# Altium footprint library 底盘.PcbLib: 38 footprints (part 2 of 3)
Each footprint in its own frame and in the unit in brackets; x right, y up, seen from the top. Pads: shape width x height; smd on the part's side, far side on the other; paste and mask are expansions set on the pad; w line width, h text height; cw(c..) or ccw(c..) is an arc to the next point about the centre after c.
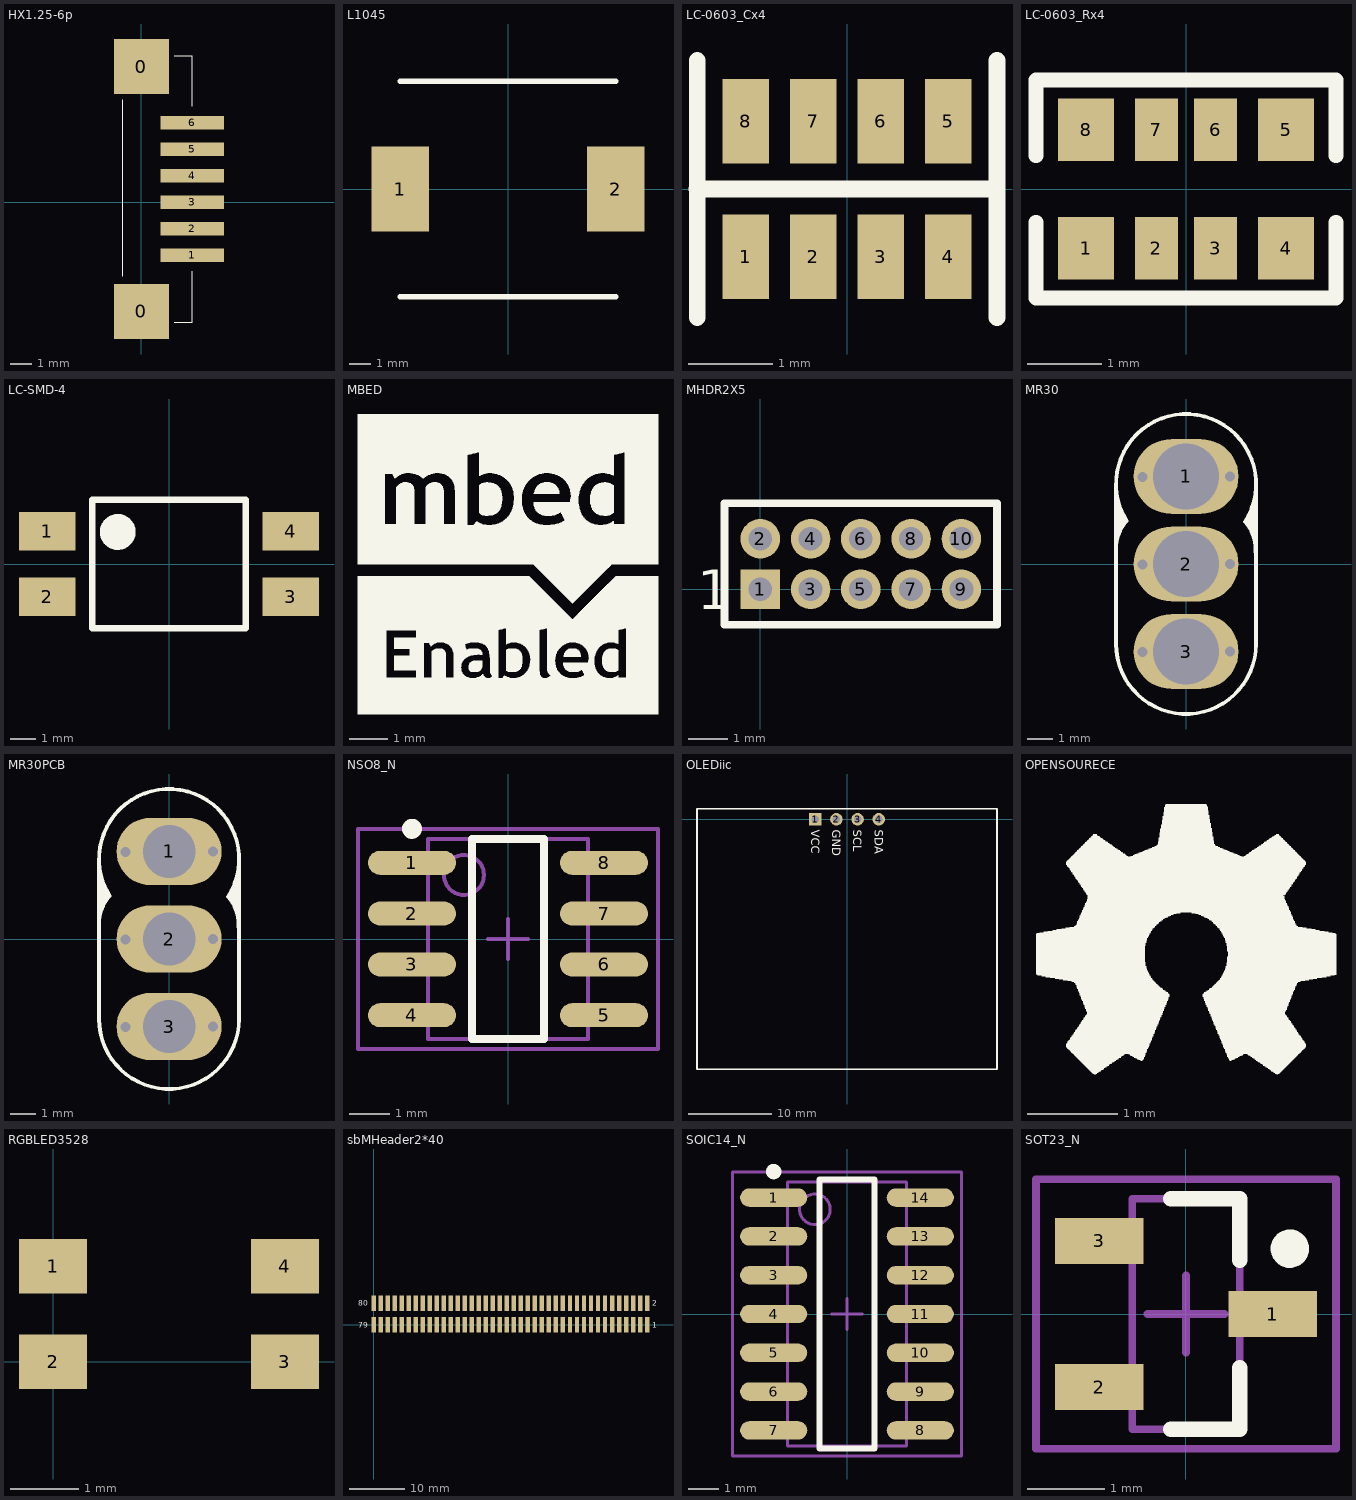
[diagram p1: the footprints below, top view; thin cyan lines are the x and y axes]

## HX1.25-6p [mm]
height 1.3
pads (8):
  rect 2.6x2.6 smd: 0(0.013,-5.15) 0(0.013,6.4)
  rect 3x0.65 smd: 1(2.413,-2.5) 2(2.413,-1.25) 3(2.413,0) 4(2.413,1.25) 5(2.413,2.5) 6(2.413,3.75)
Top Overlay:
  lines w0.05: -0.889,4.826 -0.887,-3.5 ; 1.563,-5.65 2.413,-5.65 2.413,-3.25 ; 1.563,6.92 2.413,6.92 2.413,4.52

## L1045 [mm]
height 1.3
pads (2):
  rect 2.7x4 smd: 1(-5.1,0) 2(5.1,0)
Top Overlay:
  lines w0.254: -5.1,-5.1 5.1,-5.1 ; -5.1,5.1 5.1,5.1

## LC-0603_Cx4 [mm]
pads (8):
  rect 0.55x1 smd mask+0.051: 1(-1.2,-0.8) 2(-0.4,-0.8) 3(0.4,-0.8) 4(1.2,-0.8) 5(1.2,0.8) 6(0.4,0.8) 7(-0.4,0.8) 8(-1.2,0.8)
Top Overlay:
  lines w0.2: -1.778,0 1.764,0 ; -1.775,-1.524 -1.775,-1.135 -1.775,-0.4 -1.775,1.524 ; 1.775,-1.524 1.775,-1.135 1.775,-0.4 1.775,1.135 1.775,1.524

## LC-0603_Rx4 [mm]
pads (8):
  rect 0.75x0.84 smd mask+0.051: 1(-1.35,-0.8) 4(1.35,-0.8) 5(1.35,0.8) 8(-1.35,0.8)
  rect 0.58x0.84 smd mask+0.051: 2(-0.4,-0.8) 3(0.4,-0.8) 6(0.4,0.8) 7(-0.4,0.8)
Top Overlay:
  lines w0.2: -2.025,-0.45 -2.025,-1.47 2.025,-1.47 2.025,-0.45 ; -2.025,0.45 -2.025,1.47 2.025,1.47 2.025,0.45

## LC-SMD-4 [mm]
pads (4):
  rect 2.2x1.5 smd: 1(-4.75,1.27) 2(-4.75,-1.27) 3(4.75,-1.27) 4(4.75,1.27)
Top Overlay:
  circle w0.7: c-2,1.25 r0.35
  lines w0.254: -3,-2.5 -3,2.5 3,2.5 3,-2.5 -3,-2.5

## MBED [mm]
Top Overlay:
  drawing of 3679 lines, arcs and shapes, not listed

## MHDR2X5 [mm] "Connector; Header; 5x2 Position"
height 1.3
pads (10):
  rect 1x1 hole 0.6: 1(0,0)
  round 1 hole 0.6: 2(0,1.27) 3(1.27,0) 4(1.27,1.27) 5(2.54,0) 6(2.54,1.27) 7(3.81,0) 8(3.81,1.27) 9(5.08,0) 10(5.08,1.27)
Top Overlay:
  lines w0.2: -0.9,-0.9 -0.9,2.17 5.98,2.17 5.98,-0.9 -0.9,-0.9
  text "1" at -1.6,-0.508 h1

## MR30 [mm]
pads (3):
  oval 4.2x3 hole 2.65: 1(0,3.5) 2(0,0) 3(0,-3.5)
via 1.75,0 diameter 0.4 hole 0.4
via -1.75,-0.025 diameter 0.4 hole 0.4
via 1.75,-3.5 diameter 0.4 hole 0.4
via -1.75,-3.525 diameter 0.4 hole 0.4
via 1.75,3.5 diameter 0.4 hole 0.4
via -1.75,3.475 diameter 0.4 hole 0.4
Top Overlay:
  lines w0.15: -2.8,0.5 cw(c-1.175,0.625) -2.4,1.7 ; -2.8,3.2 -2.8,-3.2 ccw(c0,-3.2) 2.8,-3.2 2.8,3.2 ; -2.725,1.35 -2.725,2.275 ; -2.65,1.425 -2.65,1.575 ; -2.65,2.05 -2.65,1.575 ; -2.525,1.875 -2.525,1.7 -2.65,1.575 ; -2.374,1.716 cw(c0,3.2) 2.358,1.691 ; 2.375,1.675 cw(c1.15,0.6) 2.775,0.475 ; 2.475,1.65 2.475,1.775 2.55,1.7 ; 2.55,1.45 2.55,1.7 ; 2.55,2 2.55,1.7 ; 2.725,2.4 2.725,2.275 2.65,2.2 2.65,1.375 2.75,1.275

## MR30PCB [mm]
pads (3):
  oval 4.2x2.7 hole 2.1: 1(0,3.5) 2(0,0) 3(0,-3.5)
via -1.75,3.475 diameter 0.4 hole 0.4
via 1.75,3.5 diameter 0.4 hole 0.4
via -1.75,-3.525 diameter 0.4 hole 0.4
via 1.75,-3.5 diameter 0.4 hole 0.4
via -1.75,-0.025 diameter 0.4 hole 0.4
via 1.75,0 diameter 0.4 hole 0.4
Top Overlay:
  lines w0.15: -2.8,0.5 cw(c-1.175,0.625) -2.4,1.7 ; -2.8,3.2 -2.8,-3.2 ccw(c0,-3.2) 2.8,-3.2 2.8,3.2 ; -2.725,1.35 -2.725,2.275 ; -2.65,1.425 -2.65,1.575 ; -2.65,2.05 -2.65,1.575 ; -2.525,1.875 -2.525,1.7 -2.65,1.575 ; -2.374,1.716 cw(c0,3.2) 2.358,1.691 ; 2.375,1.675 cw(c1.15,0.6) 2.775,0.475 ; 2.475,1.65 2.475,1.775 2.55,1.7 ; 2.55,1.45 2.55,1.7 ; 2.55,2 2.55,1.7 ; 2.725,2.4 2.725,2.275 2.65,2.2 2.65,1.375 2.75,1.275

## NSO8_N [mm] "SOIC, 8-Leads, Body 4.9x3.9mm, Pitch 1.27mm, IPC Medium Density"
height 1.75
pads (8):
  oval 2.2x0.6 smd: 1(-2.4,1.905) 2(-2.4,0.635) 3(-2.4,-0.635) 4(-2.4,-1.905) 5(2.4,-1.905) 6(2.4,-0.635) 7(2.4,0.635) 8(2.4,1.905)
Top Overlay:
  circle w0.25: c-2.4,2.755 r0.125
  lines w0.2: -0.9,-2.5 0.9,-2.5 0.9,2.5 -0.9,2.5 -0.9,-2.5
Mechanical 13:
  circle w0.1: c-1.1,1.6 r0.5
  lines w0.1: -2,-2.5 2,-2.5 2,2.5 -2,2.5 -2,-2.5
Mechanical 15:
  lines w0.1: -0.5,0 0.5,0 ; 0,-0.5 0,0.5 ; -3.75,-2.75 3.75,-2.75 3.75,2.75 -3.75,2.75 -3.75,-2.75
3D body: height 1.75, standoff 0, extent -2,-2.5 2,2.5

## OLEDiic [mm]
height 1.3
pads (4):
  rect 1.5x1.5 hole 0.9: 1(-3.81,0)
  round 1.5 hole 0.9: 2(-1.27,0) 3(1.27,0) 4(3.81,0)
Top Overlay:
  lines w0.2: -18,-30 -18,1.27 18,1.27 18,-30 -18,-30
  text "SDA" at 3.302,-1.27 h1
  text "SCL" at 0.762,-1.27 h1
  text "GND" at -1.778,-1.27 h1
  text "VCC" at -4.318,-1.27 h1

## OPENSOURECE [mm]
Top Overlay:
  drawing of 618 lines, arcs and shapes, not listed

## RGBLED3528 [mm]
pads (4):
  rect 1x0.8 smd: 1(0,1.4) 2(0,0) 3(3.4,0) 4(3.4,1.4)

## sbMHeader2*40 [mm]
pads (80):
  rect 0.8x2.8 smd: 1(49.53,0) 2(49.56,3.9) 3(48.26,0) 4(48.26,3.9) 5(46.99,0) 6(46.99,3.9) 7(45.72,0) 8(45.72,3.9) 9(44.45,0) 10(44.45,3.9) 11(43.18,0) 12(43.18,3.9) 13(41.91,0) 14(41.91,3.9) 15(40.64,0) 16(40.64,3.9) 17(39.37,0) 18(39.37,3.9) 19(38.1,0) 20(38.1,3.9) 21(36.83,0) 22(36.83,3.9) 23(35.56,0) 24(35.56,3.9) 25(34.29,0) 26(34.29,3.9) 27(33.02,0) 28(33.02,3.9) 29(31.75,0) 30(31.75,3.9) 31(30.48,0) 32(30.48,3.9) 33(29.21,0) 34(29.21,3.9) 35(27.94,0) 36(27.94,3.9) 37(26.67,0) 38(26.67,3.9) 39(25.4,0) 40(25.4,3.9) 41(24.13,0) 42(24.13,3.9) 43(22.86,0) 44(22.86,3.9) 45(21.59,0) 46(21.59,3.9) 47(20.32,0) 48(20.32,3.9) 49(19.05,0) 50(19.05,3.9) 51(17.78,0) 52(17.78,3.9) 53(16.51,0) 54(16.51,3.9) 55(15.24,0) 56(15.24,3.9) 57(13.97,0) 58(13.97,3.9) 59(12.7,0) 60(12.7,3.9) 61(11.43,0) 62(11.43,3.9) 63(10.16,0) 64(10.16,3.9) 65(8.89,0) 66(8.89,3.9) 67(7.62,0) 68(7.62,3.9) 69(6.35,0) 70(6.35,3.9) 71(5.08,0) 72(5.08,3.9) 73(3.81,0) 74(3.81,3.9) 75(2.54,0) 76(2.54,3.9) 77(1.27,0) 78(1.27,3.9) 79(0,0) 80(0,3.9)
Top Overlay:
  text "79" at -2.82,-0.5 h1
  text "1" at 50.5,-0.5 h1
  text "2" at 50.5,3.4 h1
  text "80" at -2.82,3.4 h1

## SOIC14_N [mm] "SOIC, 14-Leads, Body 8.7x3.9mm, Pitch 1.27mm, IPC Medium Density"
height 1.91
pads (14):
  oval 2.2x0.6 smd: 1(-2.4,3.81) 2(-2.4,2.54) 3(-2.4,1.27) 4(-2.4,0) 5(-2.4,-1.27) 6(-2.4,-2.54) 7(-2.4,-3.81) 8(2.4,-3.81) 9(2.4,-2.54) 10(2.4,-1.27) 11(2.4,0) 12(2.4,1.27) 13(2.4,2.54) 14(2.4,3.81)
Top Overlay:
  circle w0.25: c-2.4,4.66 r0.125
  lines w0.2: -0.9,-4.4 0.9,-4.4 0.9,4.4 -0.9,4.4 -0.9,-4.4
Mechanical 13:
  circle w0.1: c-1.05,3.425 r0.5
  lines w0.1: -1.95,-4.325 1.95,-4.325 1.95,4.325 -1.95,4.325 -1.95,-4.325
Mechanical 15:
  lines w0.1: -0.5,0 0.5,0 ; 0,-0.5 0,0.5 ; -3.75,-4.65 3.75,-4.65 3.75,4.65 -3.75,4.65 -3.75,-4.65
3D body: height 1.91, standoff 0, extent -1.95,-4.325 1.95,4.325

## SOT23_N [mm] "SOT23, 3-Leads, Body 2.9x1.3mm, Pitch 0.95mm, Lead Span 2.3mm - Reverse Pinning, IPC Medium Density"
height 1.1
pads (3):
  rect 1.15x0.6 smd: 1(1.125,0) 2(-1.125,-0.95) 3(-1.125,0.95)
Top Overlay:
  circle w0.25: c1.35,0.85 r0.125
  lines w0.2: -0.2,-1.5 0.7,-1.5 0.7,-0.7 ; -0.2,1.5 0.7,1.5 0.7,0.7
Mechanical 13:
  lines w0.1: -0.7,-1.5 -0.7,1.5 0.7,1.5 0.7,-1.5 -0.7,-1.5
Mechanical 15:
  lines w0.1: -0.5,0 0.5,0 ; 0,-0.5 0,0.5 ; -1.95,-1.75 -1.95,1.75 1.95,1.75 1.95,-1.75 -1.95,-1.75
3D body: height 1.1, standoff 0, extent -0.7,-1.5 0.7,1.5